# EAGLE library part AD5544 (library ic)
AD5544: Quad, current-out, serial-in, 16-Bit DAC (Analog Devices) 1.3mA Iout, 7nV/rt(Hz) noise
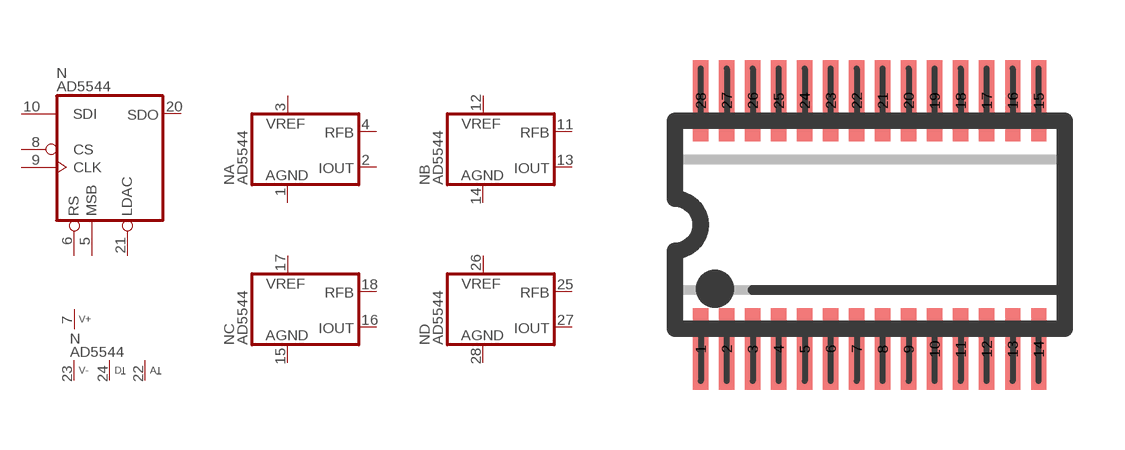
[diagram p53: symbol with the pads of SSOP28; footprint SSOP28]

Designator prefix N; gates  =AD5544-DIG A=AD5544-DAC B=AD5544-DAC C=AD5544-DAC D=AD5544-DAC P=V+-2GND-2

## AD5544  [SSOP28]
1  A:AGND  in
2  A:IOUT  out
3  A:VREF  in
4  A:RFB
5   :MSB  in
6   :RS  in
7  P:V+  pwr
8   :CS  in
9   :CLK  in
10   :SDI  in
11  B:RFB
12  B:VREF  in
13  B:IOUT  out
14  B:AGND  in
15  C:AGND  in
16  C:IOUT  out
17  C:VREF  in
18  C:RFB
20   :SDO  out
21   :LDAC  in
22  P:AGND  pwr
23  P:V-  pwr
24  P:DGND  pwr
25  D:RFB
26  D:VREF  in
27  D:IOUT  out
28  D:AGND  in

## Footprint SSOP28 (pad centres in mm)
SSOP-28, SMD SSOP IC package, 28 pins (fine pitch SMD)
smd 0.381 x 2.032: 1 -4.227,-3.104; 2 -3.576,-3.104; 3 -2.926,-3.104; 4 -2.276,-3.104; 5 -1.626,-3.104; 6 -0.975,-3.104; 7 -0.325,-3.104; 8 0.325,-3.104; 9 0.975,-3.104; 10 1.626,-3.104; 11 2.276,-3.104; 12 2.926,-3.104; 13 3.576,-3.104; 14 4.226,-3.104; 15 4.226,3.104; 16 3.576,3.104; 17 2.926,3.104; 18 2.276,3.104; 19 1.626,3.104; 20 0.975,3.104; 21 0.325,3.104; 22 -0.325,3.104; 23 -0.975,3.104; 24 -1.626,3.104; 25 -2.276,3.104; 26 -2.926,3.104; 27 -3.576,3.104; 28 -4.227,3.104